# Altium footprint library SamacSys.PcbLib: 36 footprints (part 3 of 3)
Each footprint in its own frame and in the unit in brackets; x right, y up, seen from the top. Pads: shape width x height; smd on the part's side, far side on the other; paste and mask are expansions set on the pad; w line width, h text height; cw(c..) or ccw(c..) is an arc to the next point about the centre after c.
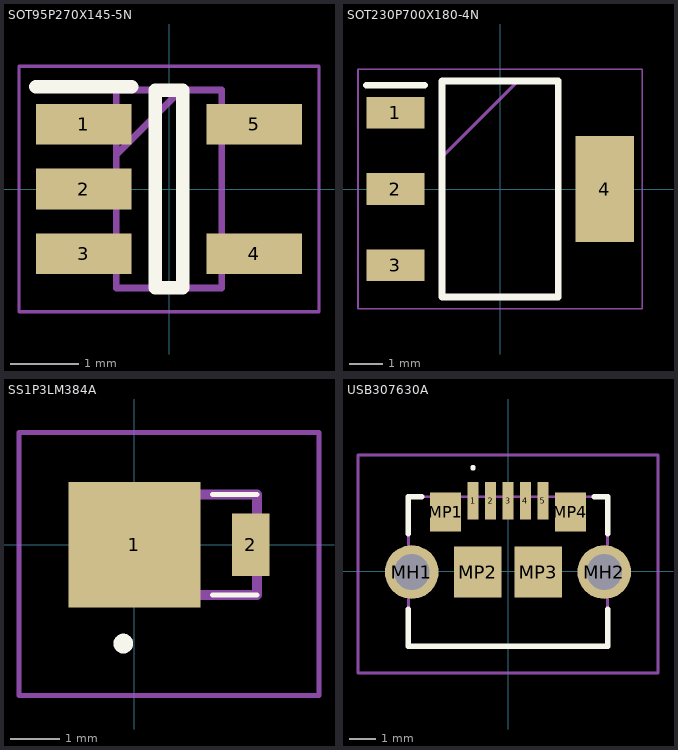
[diagram p2: the footprints below, top view; thin cyan lines are the x and y axes]

## SOT95P270X145-5N [mm]
pads (5):
  rect 1.4x0.6 smd: 1(-1.25,0.95) 2(-1.25,0) 3(-1.25,-0.95) 4(1.25,-0.95) 5(1.25,0.95)
Top Overlay:
  lines w0.2: -1.95,1.5 -0.55,1.5 ; -0.2,-1.45 -0.2,1.45 0.2,1.45 0.2,-1.45 -0.2,-1.45
Mechanical 13:
  lines w0.1: -0.775,0.5 0.175,1.45 ; -0.775,-1.45 -0.775,1.45 0.775,1.45 0.775,-1.45 -0.775,-1.45
Mechanical 15:
  lines w0.05: -2.2,-1.8 -2.2,1.8 2.2,1.8 2.2,-1.8 -2.2,-1.8
3D body "TC1185-3.3VCT713.stp": height 1.45, standoff 0, extent -1.35,-1.45 1.35,1.45

## SOT230P700X180-4N [mm]
pads (4):
  rect 1.75x0.95 smd: 1(-3.15,2.3) 2(-3.15,0) 3(-3.15,-2.3)
  rect 1.75x3.2 smd: 4(3.15,0)
Top Overlay:
  lines w0.2: -4.025,3.125 -2.275,3.125 ; -1.75,-3.25 1.75,-3.25 1.75,3.25 -1.75,3.25 -1.75,-3.25
Mechanical 13:
  lines w0.1: -1.75,0.95 0.55,3.25 ; -1.75,-3.25 1.75,-3.25 1.75,3.25 -1.75,3.25 -1.75,-3.25
Mechanical 15:
  lines w0.05: -4.275,-3.6 4.275,-3.6 4.275,3.6 -4.275,3.6 -4.275,-3.6
3D body "REG1117-5_2K5.stp": height 1.8, standoff 0, extent -3.5,-3.25 3.5,3.25

## SS1P3LM384A [mm]
pads (2):
  rect 2.67x2.54 smd: 1(0,0)
  rect 0.762x1.27 smd: 2(2.351,0)
Top Overlay:
  lines w0.1: 1.575,-1.015 2.475,-1.015 ; 1.575,1.015 2.475,1.015
  lines w0.2: -0.325,-2 ccw(c-0.225,-2) -0.125,-2 ccw(c-0.225,-2) -0.325,-2
Mechanical 13:
  lines w0.2: -0.925,-1.015 2.475,-1.015 2.475,1.015 -0.925,1.015 -0.925,-1.015
Mechanical 15:
  lines w0.1: -2.335,-3.05 3.731,-3.05 3.731,2.27 -2.335,2.27 -2.335,-3.05
3D body "SS1P3L-M3_84A.stp": height 1.15, standoff 0, extent -1.225,-1.025 2.675,1.025

## USB307630A [mm]
pads (11):
  rect 0.4x1.4 smd: 1(-1.3,2.625) 2(-0.65,2.625) 3(0,2.625) 4(0.65,2.625) 5(1.3,2.625)
  round 1.995 hole 1.33: MH1(-3.575,-0.025) MH2(3.575,-0.025)
  rect 1.15x1.45 smd: MP1(-2.32,2.205) MP4(2.32,2.205)
  rect 1.75x1.9 smd: MP2(-1.125,-0.025) MP3(1.125,-0.025)
Top Overlay:
  lines w0.1: -1.3,3.8 ccw(c-1.3,3.85) -1.3,3.9 ccw(c-1.3,3.85) -1.3,3.8
  lines w0.2: -3.7,-1.4 -3.7,-2.775 3.7,-2.775 3.7,-1.4 ; -3.7,1.4 -3.7,2.775 -3.2,2.775 ; 3.2,2.775 3.7,2.775 3.7,1.4
Mechanical 13:
  lines w0.1: -3.7,-2.775 3.7,-2.775 3.7,2.775 -3.7,2.775 -3.7,-2.775
Mechanical 15:
  lines w0.1: -5.573,-3.775 5.573,-3.775 5.573,4.325 -5.573,4.325 -5.573,-3.775
3D body "USB3076-30-A.stp": height -0.37, standoff -5.97, extent 0,-1.25 7.4,2.41